# Altium footprint library UPS_pcb_lib.PcbLib: 23 footprints (part 2 of 2)
Each footprint in its own frame and in the unit in brackets; x right, y up, seen from the top. Pads: shape width x height; smd on the part's side, far side on the other; paste and mask are expansions set on the pad; w line width, h text height; cw(c..) or ccw(c..) is an arc to the next point about the centre after c.
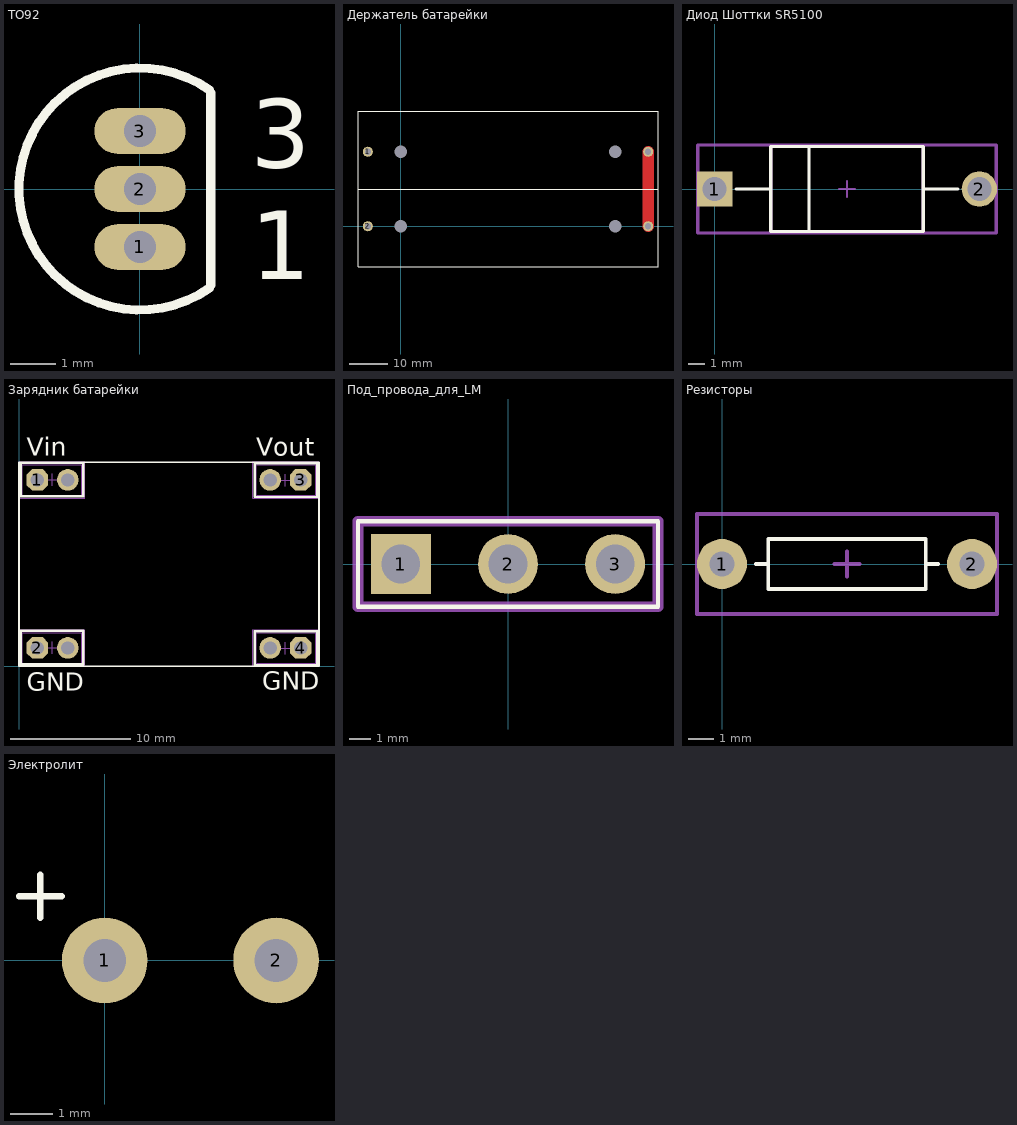
[diagram p1: the footprints below, top view; thin cyan lines are the x and y axes]

## TO92 [mm] "TO, Flat Index; 3 In-Line, Axial Leads; Body Dia. 4.8mm; Leads 0.51 x 0.51 mm (max)"
height 5.33
pads (3):
  oval 2x1 hole 0.7: 1(0,-1.27) 2(0,0) 3(0,1.27)
Top Overlay:
  lines w0.2: 1.52,-2.171 cw(c0,0) 1.52,2.171 ; 1.55,-2.1 1.55,2.1
  text "3" at 2.421,0.467 h1.5
  text "1" at 2.421,-1.979 h1.5
Mechanical 7:
  lines w0.1: 1.52,-2.171 cw(c0,0) 1.52,2.171 ; 1.55,-2.1 1.55,2.1
3D body: height 10, standoff 5.33, extent -2.7,-2.7 1.6,2.7

## Держатель батарейки [mm]
pads (8):
  round 2.6 hole 1.6: 1(-8.49,19.3) 2(-8.49,0) ""(64.11,0) ""(64.11,19.3)
  round 0 hole 3.2 unplated mask+1: ""(0,0) ""(0,19.3) ""(55.62,0) ""(55.62,19.3)
Top Layer:
  lines w3: 64.11,0 64.11,19.3
Top Overlay:
  lines w0.15: -11.04,9.65 66.66,9.65 ; -11.04,-10.455 -11.04,29.755 27.81,29.755 66.66,29.755 66.66,-10.455 27.81,-10.455 -11.04,-10.455

## Диод Шоттки SR5100 [mm]
pads (2):
  rect 2.2x2.2 hole 1.5 paste-1000 mask+0: 1(0,0)
  round 2.2 hole 1.5 paste-1000 mask+0: 2(16.496,0)
Top Overlay:
  lines w0.2: 1.35,0 3.498,0 ; 5.873,-2.58 5.873,2.58 ; 12.998,0 15.146,0 ; 3.498,-2.65 12.998,-2.65 12.998,2.65 3.498,2.65 3.498,-2.65
Mechanical 5:
  lines w0.2: -1.05,-2.75 17.546,-2.75 17.546,2.75 -1.05,2.75 -1.05,-2.75
  text ".Designator" at 8.248,0.188 h1
Mechanical 13:
  lines w0.2: 3.498,-2.65 12.998,-2.65 12.998,2.65 3.498,2.65 3.498,-2.65
Mechanical 15:
  lines w0.2: -1.05,-2.75 17.546,-2.75 17.546,2.75 -1.05,2.75 -1.05,-2.75
Mechanical 16:
  lines w0.1: 7.748,0 8.748,0 ; 8.248,-0.5 8.248,0.5
3D body "Diode_STMicroelectronics_1_5KE33A_eec.STEP": height 0.25, standoff 0, extent -1.05,-2.75 17.546,2.75

## Зарядник батарейки [mm] "Ставится четыремя выводами на розетки PBS-02 или просто запаивается в отверстия"
pads (8):
  oct 1.8x1.8 hole 1.1: 1(1.524,15.524) 2(1.524,1.524) 3(23.474,15.524) 4(23.474,1.524)
  round 1.8 hole 1.1: ""(4.064,1.524) ""(4.064,15.524) ""(20.934,1.524) ""(20.934,15.524)
Top Overlay:
  lines w0.15: 0,0 0,17 25,17 25,0 0,0
  lines w0.2: 5.36,14.148 5.36,14.848 5.36,16.248 5.36,16.948 ; 5.361,14.149 0.146,14.149 0.146,16.949 5.361,16.949 ; 19.637,16.899 24.852,16.899 24.852,14.099 19.637,14.099 19.638,14.8 19.638,16.2 19.638,16.9 ; 0.146,0.149 5.361,0.149 5.36,0.848 5.36,2.248 5.36,2.948 0.146,2.949 0.146,0.149 ; 19.638,0.1 19.638,0.8 19.638,2.2 19.638,2.9 24.852,2.899 24.852,0.099 19.637,0.099
  text "Vin" at 0.654,17.554 h1.52
  text "Vout" at 19.754,17.554 h1.52
  text "GND" at 20.254,-1.946 h1.52
  text "GND" at 0.654,-2.046 h1.52
Mechanical 1:
  lines w0.1: 5.204,0.254 0.254,0.254 0.254,2.794 5.204,2.794 ; 5.204,14.254 0.254,14.254 0.254,16.794 5.204,16.794 ; 5.222,0.254 5.222,2.794 ; 5.222,14.254 5.222,16.794 ; 19.776,0.254 19.776,2.794 ; 19.776,14.254 19.776,16.794 ; 19.794,0.254 24.744,0.254 24.744,2.794 19.794,2.794 ; 19.794,14.254 24.744,14.254 24.744,16.794 19.794,16.794
Mechanical 15:
  lines w0.05: 0,0 0,3.048 5.5,3.048 5.5,0 0,0 ; 0,14 0,17.048 5.5,17.048 5.5,14 0,14 ; 19.498,0 24.998,0 24.998,3.048 19.498,3.048 19.498,0 ; 19.498,14 24.998,14 24.998,17.048 19.498,17.048 19.498,14
  lines w0.1: 2.292,1.538 3.292,1.538 ; 2.292,15.538 3.292,15.538 ; 2.792,1.038 2.792,2.038 ; 2.792,15.038 2.792,16.038 ; 21.706,1.51 22.706,1.51 ; 21.706,15.51 22.706,15.51 ; 22.206,1.01 22.206,2.01 ; 22.206,15.01 22.206,16.01

## Под_провода_для_LM [mm]
pads (3):
  rect 2.8x2.8 hole 1.8: 1(-5,0)
  round 2.8 hole 1.8: 2(0,0) 3(5,0)
Top Overlay:
  lines w0.2: -7,-2 7,-2 7,2 -7,2 -7,-2
Mechanical 15:
  lines w0.1: -0.5,0 0.5,0 ; 0,-0.5 0,0.5
  lines w0.5: -7,-2 -7,2 7,2 7,-2 -7,-2

## Резисторы [mm]
pads (2):
  round 2 hole 1: 1(0,0) 2(10,0)
Top Overlay:
  lines w0.15: 1.35,0 1.85,0 ; 8.15,0 8.65,0 ; 1.85,-1 1.85,1 8.15,1 8.15,-1 1.85,-1
Mechanical 15:
  lines w0.15: 4.5,0 5.5,0 ; 5,-0.5 5,0.5 ; -1,-2 -1,2 1.5,2 7.5,2 11,2 11,-2 -1,-2

## Электролит [mm]
pads (2):
  round 2 hole 1: 1(0,0) 2(4,0)
Top Overlay:
  lines w0.15: -2,1.5 -1,1.5 ; -1.5,1 -1.5,2